# Altium footprint library FH26W-15S-0.3.PcbLib: 1 footprints
Each footprint in its own frame and in the unit in brackets; x right, y up, seen from the top. Pads: shape width x height; smd on the part's side, far side on the other; paste and mask are expansions set on the pad; w line width, h text height; cw(c..) or ccw(c..) is an arc to the next point about the centre after c.
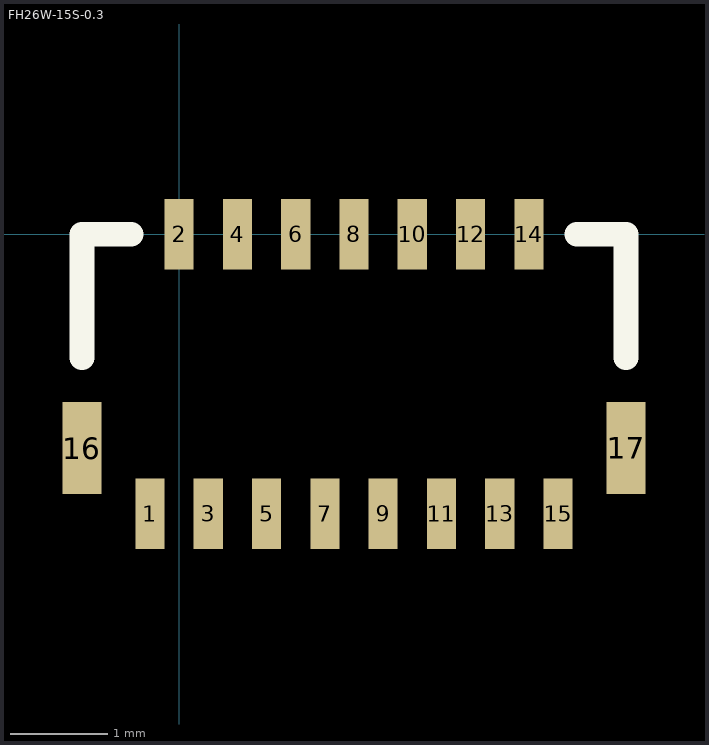
[diagram p0: the footprint, top view; thin cyan lines are the x and y axes]

## FH26W-15S-0.3 [mm]
pads (17):
  rect 0.3x0.725 smd: 1(-0.3,-2.875) 2(0,0) 3(0.3,-2.875) 4(0.6,0) 5(0.9,-2.875) 6(1.2,0) 7(1.5,-2.875) 8(1.8,0) 9(2.1,-2.875) 10(2.4,0) 11(2.7,-2.875) 12(3,0) 13(3.3,-2.875) 14(3.6,0) 15(3.9,-2.875)
  rect 0.4x0.95 smd: 16(-1,-2.2) 17(4.6,-2.2)
Top Overlay:
  lines w0.254: -1,-1.27 -1,0 -0.492,0 ; 4.092,0 4.6,0 4.6,-1.27